# Altium footprint library ronghe_rh-5001.PcbLib: 1 footprints
Each footprint in its own frame and in the unit in brackets; x right, y up, seen from the top. Pads: shape width x height; smd on the part's side, far side on the other; paste and mask are expansions set on the pad; w line width, h text height; cw(c..) or ccw(c..) is an arc to the next point about the centre after c.
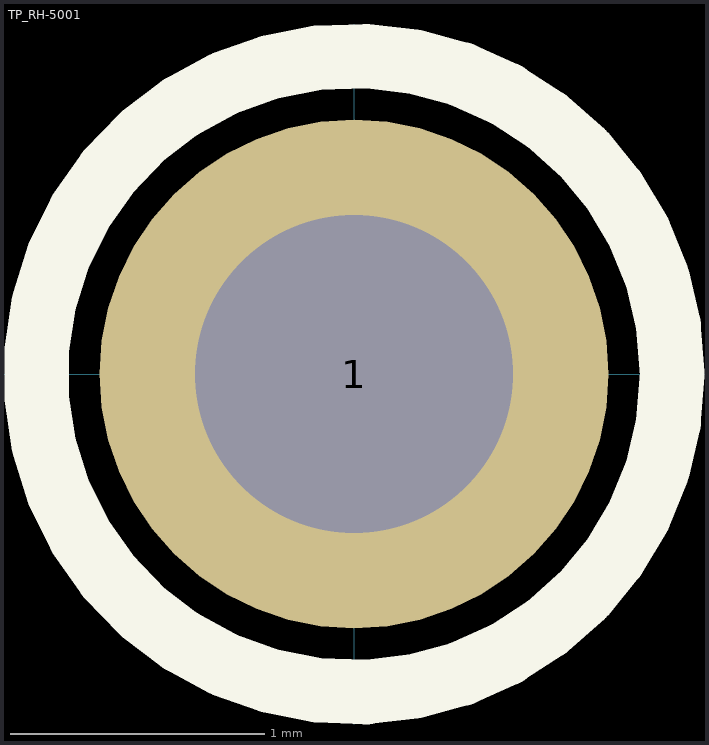
[diagram p0: the footprint, top view; thin cyan lines are the x and y axes]

## TP_RH-5001 [mm]
pads (1):
  round 2 hole 1.25: 1(0,0)
Top Overlay:
  circle w0.254: c0,0 r1.25
3D body "rh-5001.step": height 4.59, standoff 0, extent -1.25,-1.241 1.25,1.241